# Altium footprint library PCB - LEADED - SOT95P250X110-5N.PCBLIB: 1 footprints
Each footprint in its own frame and in the unit in brackets; x right, y up, seen from the top. Pads: shape width x height; smd on the part's side, far side on the other; paste and mask are expansions set on the pad; w line width, h text height; cw(c..) or ccw(c..) is an arc to the next point about the centre after c.
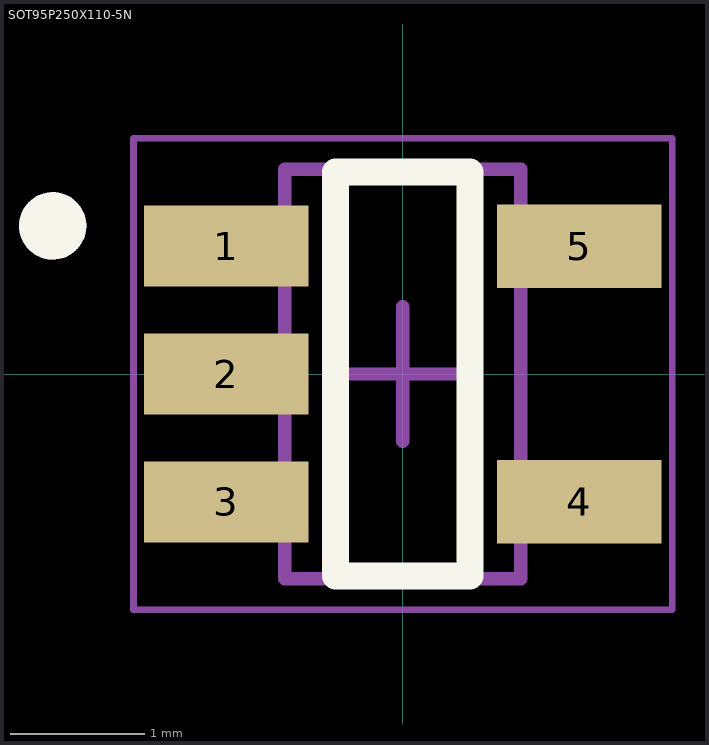
[diagram p0: the footprint, top view; thin cyan lines are the x and y axes]

## SOT95P250X110-5N [mm] "SOT23, 5-Leads, Body 2,92x2,50mm, Pitch 0,95mm, IPC Medium Density"
height 1.1
pads (5):
  rect 1.22x0.6 smd: 1(-1.31,0.95) 2(-1.31,0) 3(-1.31,-0.95)
  rect 1.22x0.62 smd: 4(1.31,-0.95) 5(1.31,0.95)
Top Overlay:
  circle w0.25: c-2.6,1.1 r0.125
  lines w0.2: -0.5,-1.5 0.5,-1.5 0.5,1.5 -0.5,1.5 -0.5,-1.5
Top Assembly:
  circle w0.25: c-2.6,1.1 r0.125
  lines w0.1: -0.875,-1.52 -0.875,1.52 0.875,1.52 0.875,-1.52 -0.875,-1.52
Top Courtyard:
  lines w0.05: -2,-1.75 2,-1.75 2,1.75 -2,1.75 -2,-1.75
Top Designator:
  text ".Designator" at 3.2,0.4 h1
Top Component Center:
  lines w0.1: -0.5,0 0.5,0 ; 0,-0.5 0,0.5
Top Value:
  text ".Comment" at 3.2,-0.6 h1
3D body: height 1.1, standoff 0.01, extent -0.875,-1.52 0.875,1.52